# EAGLE library part BM08B-SRSS-TB (library Con_JST_SH)
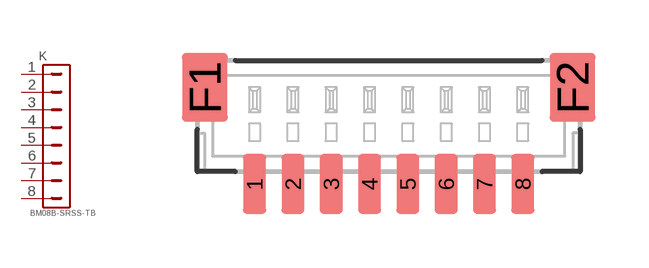
[diagram p2: symbol with the pads of BM08B-SRSS-TB; footprint BM08B-SRSS-TB]

Designator prefix K

## BM08B-SRSS-TB  [BM08B-SRSS-TB]
1  1  pas
2  2  pas
3  3  pas
4  4  pas
5  5  pas
6  6  pas
7  7  pas
8  8  pas

## Footprint BM08B-SRSS-TB (pad centres in mm)
smd 0.6 x 1.55: 1 -3.5,-1.325; 2 -2.5,-1.325; 3 -1.5,-1.325; 4 -0.5,-1.325; 5 0.5,-1.325; 6 1.5,-1.325; 7 2.5,-1.325; 8 3.5,-1.325
smd 1.2 x 1.8: F1 -4.8,1.2; F2 4.8,1.2